# Altium schematic symbol library Crystal.SchLib: 2 symbols
Pins are listed as number, name and electrical type; pins without a type are passive.

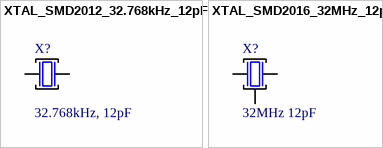
[diagram p0: symbols XTAL_SMD2012_32.768kHz_12pF to XTAL_SMD2016_32MHz_12pF]

## XTAL_SMD2012_32.768kHz_12pF
designator X?, comment 32.768kHz, 12pF
32.768kHz 12pF ±20ppm SMD2012-2P  Crystals ROHS; Pad Count: 2; Frequency: 32.768kHz; Component Class: Oscillators
footprint XTAL_2012_2P (XTAL SMD 2.0 x 1.2 mm)
pins: 1 IN, 2 OUT

## XTAL_SMD2016_32MHz_12pF
designator X?, comment 32MHz 12pF
XTAL SMD 2016, 32MHz, Cl=12pF, Total Tol: ±20ppm; Frequency: 32MHz; Pins: 4
footprint XTAL_2016_4P (Crystal 2.0 x 1.6 mm)
pins: 1 IN, 2 GND, 3 OUT